# EAGLE library part L5973D (library dc-dc)
Buck Switching Regulator IC Positive Adjustable 1.235V 1 Output 2.5A 8-SOIC (0.154", 3.90mm Width) Exposed Pad Datasheet <https://www.st.com/content/ccc/resource/technical/document/datasheet/4e/55/f1/3b/07/ef/4e/02/CD00002851.pdf/files/CD00002851.pdf/jcr:content/translations/en.CD00002851.pdf>
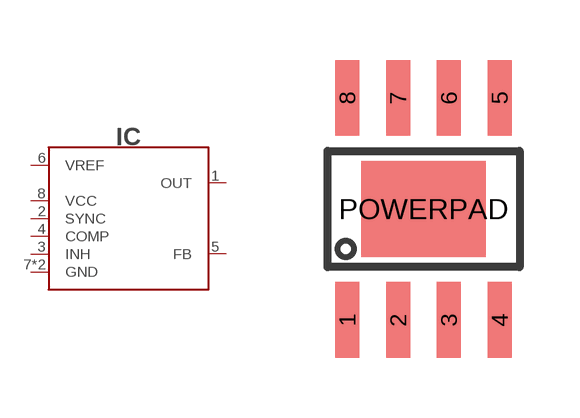
[diagram p17: symbol with the pads of SOIC8-POWERPAD; footprint SOIC8-POWERPAD]

Designator prefix IC

## L5973D (DIGIKEY#: 497-4566-1-ND; MANF: STMicroelectronics; MANF#: L5973D013TR)  [SOIC8-POWERPAD]
1  OUT
2  SYNC
3  INH
4  COMP
5  FB
6  VREF
7  GND
8  VCC
POWERPAD  GND

## Footprint SOIC8-POWERPAD (pad centres in mm)
https://datasheet.lcsc.com/szlcsc/1811060506_Texas-Instruments-LM5017MRX-NOPB_C34355.pdf
smd 0.6 x 1.9: 1 -1.905,-2.78; 2 -0.635,-2.78; 3 0.635,-2.78; 4 1.905,-2.78; 5 1.905,2.78; 6 0.635,2.78; 7 -0.635,2.78; 8 -1.905,2.78
smd 3.1 x 2.4: POWERPAD 0,0